# EAGLE library part DF40C-30DP-0.4V(51) (library DF40C-30DP-0.4V_51_)
Check availability <https://pricing.snapeda.com/parts/DF40C-30DP-0.4V%2851%29/Hirose%20Connector/view-part?ref=eda>
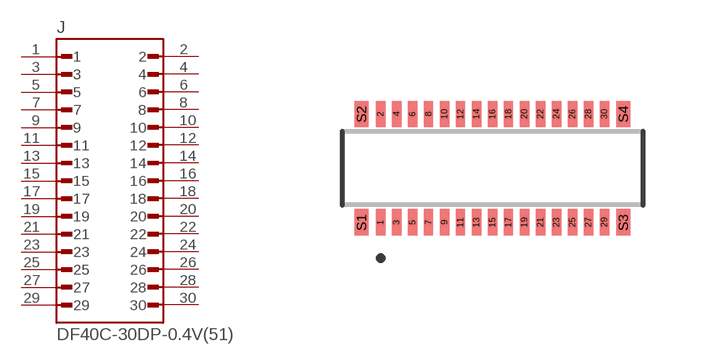
[diagram p0: symbol with the pads of HRS_DF40C-30DP-0.4V(51); footprint HRS_DF40C-30DP-0.4V(51)]

Designator prefix J

## DF40C-30DP-0.4V(51) (Availability: In Stock; Check_prices: https://www.snapeda.com/parts/DF40C-30DP-0.4V(51)/Hirose/view-part/?ref=eda; Description: Board to Board & Mezzanine Connectors 30P SMT HEADER NO FITTING, NO BOSS; MF: Hirose Connector; MP: DF40C-30DP-0.4V(51); Package: None; Price: None; SnapEDA_Link: https://www.snapeda.com/parts/DF40C-30DP-0.4V(51)/Hirose/view-part/?ref=snap)  [HRS_DF40C-30DP-0.4V(51)]
1  1  pas
2  2  pas
3  3  pas
4  4  pas
5  5  pas
6  6  pas
7  7  pas
8  8  pas
9  9  pas
10  10  pas
11  11  pas
12  12  pas
13  13  pas
14  14  pas
15  15  pas
16  16  pas
17  17  pas
18  18  pas
19  19  pas
20  20  pas
21  21  pas
22  22  pas
23  23  pas
24  24  pas
25  25  pas
26  26  pas
27  27  pas
28  28  pas
29  29  pas
30  30  pas

## Footprint HRS_DF40C-30DP-0.4V(51) (pad centres in mm)
smd 0.23 x 0.66: 1 -2.8,-1.355; 2 -2.8,1.355; 3 -2.4,-1.355; 4 -2.4,1.355; 5 -2,-1.355; 6 -2,1.355; 7 -1.6,-1.355; 8 -1.6,1.355; 9 -1.2,-1.355; 10 -1.2,1.355; 11 -0.8,-1.355; 12 -0.8,1.355; 13 -0.4,-1.355; 14 -0.4,1.355; 15 0,-1.355; 16 0,1.355; 17 0.4,-1.355; 18 0.4,1.355; 19 0.8,-1.355; 20 0.8,1.355; 21 1.2,-1.355; 22 1.2,1.355; 23 1.6,-1.355; 24 1.6,1.355; 25 2,-1.355; 26 2,1.355; 27 2.4,-1.355; 28 2.4,1.355; 29 2.8,-1.355; 30 2.8,1.355
smd 0.35 x 0.66: S1 -3.275,-1.355; S2 -3.275,1.355; S3 3.275,-1.355; S4 3.275,1.355